# Altium schematic symbol library Oscillator_Sch.SchLib: 1 symbol
Pins are listed as number, name and electrical type; pins without a type are passive.

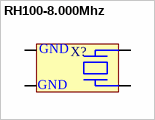
[diagram p0: symbol RH100-8.000Mhz]

## RH100-8.000Mhz
designator X?
footprint RH100-8.000 (Crystal, 4-Leads, Body 2.50x3.20mm, Pitch 2.20mm, IPC Medium Density)
pins: 1 GND, 2 X2, 3 GND, 4 X1